# Altium footprint library Footprints - Traffic Simulator.PcbLib: 4 footprints
Each footprint in its own frame and in the unit in brackets; x right, y up, seen from the top. Pads: shape width x height; smd on the part's side, far side on the other; paste and mask are expansions set on the pad; w line width, h text height; cw(c..) or ccw(c..) is an arc to the next point about the centre after c.
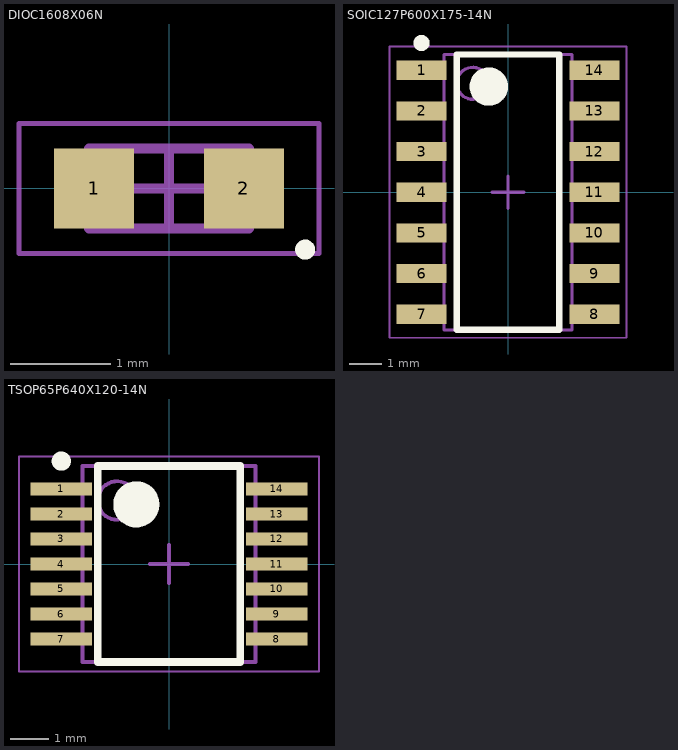
[diagram p0: the footprints below, top view; thin cyan lines are the x and y axes]

## DIOC1608X06N [mm] "Chip Diode, 2-Leads, Body 1.60x0.80mm, IPC Medium Density"
height 0.6
pads (2):
  rect 0.8x0.8 smd: 1(-0.75,0) 2(0.75,0)
Top Overlay:
  circle w0.1: c1.362,-0.612 r0.05
Mechanical 13:
  lines w0.1: -0.8,-0.4 0.8,-0.4 0.8,0.4 -0.8,0.4 -0.8,-0.4
Mechanical 15:
  lines w0.05: -1.5,-0.65 1.5,-0.65 1.5,0.65 -1.5,0.65 -1.5,-0.65
  lines w0.1: -0.4,0 0.4,0 ; 0,-0.4 0,0.4
3D body: height 0.6, standoff 0, extent 0.35,-0.4 0.8,0.4
3D body: height 0.6, standoff 0, extent -0.8,-0.4 -0.35,0.4
3D body: height 0.6, standoff 0, extent -0.35,-0.4 0.35,0.4

## PCBComponent_1 [mm]

## SOIC127P600X175-14N [mm] "SOIC, 14-Leads, Body 8.65x3.90mm, Pitch 1.27mm, IPC Medium Density"
height 1.75
pads (14):
  rect 1.55x0.6 smd: 1(-2.7,3.81) 2(-2.7,2.54) 3(-2.7,1.27) 4(-2.7,0) 5(-2.7,-1.27) 6(-2.7,-2.54) 7(-2.7,-3.81) 8(2.7,-3.81) 9(2.7,-2.54) 10(2.7,-1.27) 11(2.7,0) 12(2.7,1.27) 13(2.7,2.54) 14(2.7,3.81)
Top Overlay:
  circle w0.25: c-2.7,4.66 r0.125
  circle w0.6: c-0.6,3.3 r0.3
  lines w0.2: -1.6,-4.3 -1.6,4.3 1.6,4.3 1.6,-4.3 -1.6,-4.3
Mechanical 13:
  circle w0.1: c-1.1,3.4 r0.5
  lines w0.1: -2,-4.3 -2,4.3 2,4.3 2,-4.3 -2,-4.3
Mechanical 15:
  lines w0.05: -3.7,-4.55 -3.7,4.55 3.7,4.55 3.7,-4.55 -3.7,-4.55
  lines w0.1: -0.5,0 0.5,0 ; 0,-0.5 0,0.5
3D body "SOIC127P600X175-14N.step": height 1.75, standoff 0, extent -3,-4.3 3,4.3

## TSOP65P640X120-14N [mm] "TSOP, 14-Leads, Body 5.00x4.40mm, Pitch 0.65mm, IPC Medium Density"
height 1.2
pads (14):
  rect 1.6x0.35 smd: 1(-2.8,1.95) 2(-2.8,1.3) 3(-2.8,0.65) 4(-2.8,0) 5(-2.8,-0.65) 6(-2.8,-1.3) 7(-2.8,-1.95) 8(2.8,-1.95) 9(2.8,-1.3) 10(2.8,-0.65) 11(2.8,0) 12(2.8,0.65) 13(2.8,1.3) 14(2.8,1.95)
Top Overlay:
  circle w0.6: c-0.85,1.55 r0.3
  circle w0.25: c-2.8,2.675 r0.125
  lines w0.2: -1.85,-2.55 1.85,-2.55 1.85,2.55 -1.85,2.55 -1.85,-2.55
Mechanical 13:
  circle w0.1: c-1.35,1.65 r0.5
  lines w0.1: -2.25,-2.55 2.25,-2.55 2.25,2.55 -2.25,2.55 -2.25,-2.55
Mechanical 15:
  lines w0.05: -3.9,-2.8 3.9,-2.8 3.9,2.8 -3.9,2.8 -3.9,-2.8
  lines w0.1: -0.5,0 0.5,0 ; 0,-0.5 0,0.5
3D body "TSOP65P640X120-14N.step": height 1.2, standoff 0, extent -3.2,-2.55 3.2,2.55